# EAGLE library part 74*08 (library U-7400)
Quad 2-input AND gate
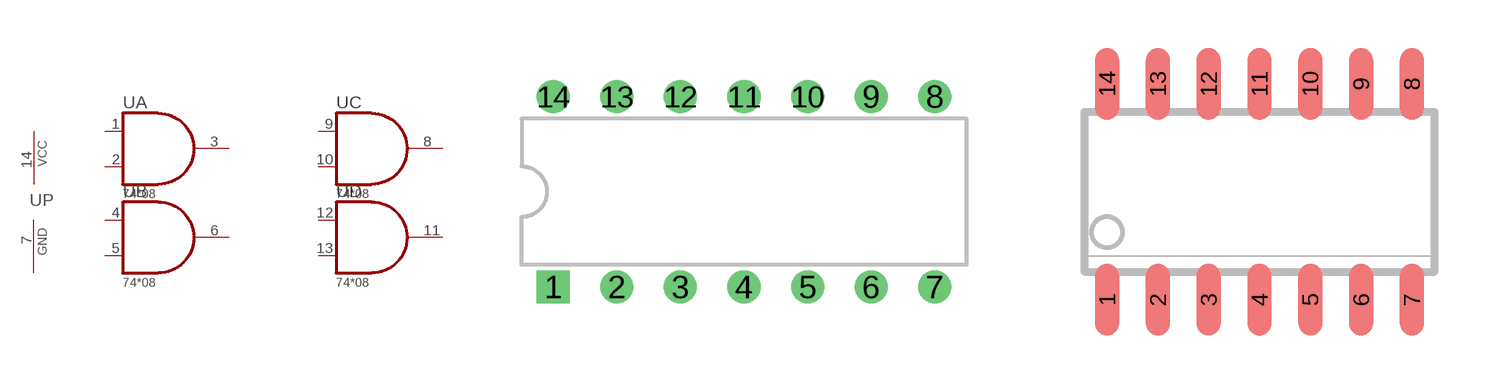
[diagram p172: symbol with the pads of 14DIP; footprints 14DIP, 14SOIC]

Designator prefix U; gates A=7408 B=7408 C=7408 D=7408 P=PWRN

## 74ALS08N, 74AS08N, 74LS08N, 74S08N  [14DIP]
1  A:I0  in
2  A:I1  in
3  A:O  out
4  B:I0  in
5  B:I1  in
6  B:O  out
7  P:GND  pwr
8  C:O  out
9  C:I0  in
10  C:I1  in
11  D:O  out
12  D:I0  in
13  D:I1  in
14  P:VCC  sup

## 74ALS08D, 74AS08D, 74LS08D, 74S08D  [14SOIC]
Pads as for 14DIP

## 7408DB  [14SSOP]
Pads as for 14DIP

## 7408PW  [14TSSOP]
Pads as for 14DIP

## Footprint 14DIP (pad centres in mm)
14POS Dual In-line Package
drill 0.813 square: 1 -7.62,-3.81
drill 0.813: 2 -5.08,-3.81; 3 -2.54,-3.81; 4 0,-3.81; 5 2.54,-3.81; 6 5.08,-3.81; 7 7.62,-3.81; 8 7.62,3.81; 9 5.08,3.81; 10 2.54,3.81; 11 0,3.81; 12 -2.54,3.81; 13 -5.08,3.81; 14 -7.62,3.81

## Footprint 14SOIC (pad centres in mm)
14POS SMALL OUTLINE (14SO[IC]) pitch 1.27 pad .6mm X1.8mm body-Center to pad-Center 2.7mm referance TI's SOIC package, but pads are little larger and rounded
smd 0.6 x 1.8: 1 -3.81,-2.7; 2 -2.54,-2.7; 3 -1.27,-2.7; 4 0,-2.7; 5 1.27,-2.7; 6 2.54,-2.7; 7 3.81,-2.7; 8 3.81,2.7; 9 2.54,2.7; 10 1.27,2.7; 11 0,2.7; 12 -1.27,2.7; 13 -2.54,2.7; 14 -3.81,2.7

## Footprint 14SSOP (pad centres in mm)
14POS SHRINK SMALL OUTLINE PACKAGE (14-SSOP)
smd 0.4 x 1.5: 1 -1.95,-3.3; 2 -1.3,-3.3; 3 -0.65,-3.3; 4 0,-3.3; 5 0.65,-3.3; 6 1.3,-3.3; 7 1.95,-3.3; 8 1.95,3.3; 9 1.3,3.3; 10 0.65,3.3; 11 0,3.3; 12 -0.65,3.3; 13 -1.3,3.3; 14 -1.95,3.3

## Footprint 14TSSOP (pad centres in mm)
14POS THIN SHRINK SMALL OUTLINE PACKAGE (14-TSSOP)
smd 0.33 x 1.8: 1 -1.95,-3; 2 -1.3,-3; 3 -0.65,-3; 4 0,-3; 5 0.65,-3; 6 1.3,-3; 7 1.95,-3; 8 1.95,3; 9 1.3,3; 10 0.65,3; 11 0,3; 12 -0.65,3; 13 -1.3,3; 14 -1.95,3